# Altium footprint library ESCV3.PcbLib: 2 footprints
Each footprint in its own frame and in the unit in brackets; x right, y up, seen from the top. Pads: shape width x height; smd on the part's side, far side on the other; paste and mask are expansions set on the pad; w line width, h text height; cw(c..) or ccw(c..) is an arc to the next point about the centre after c.
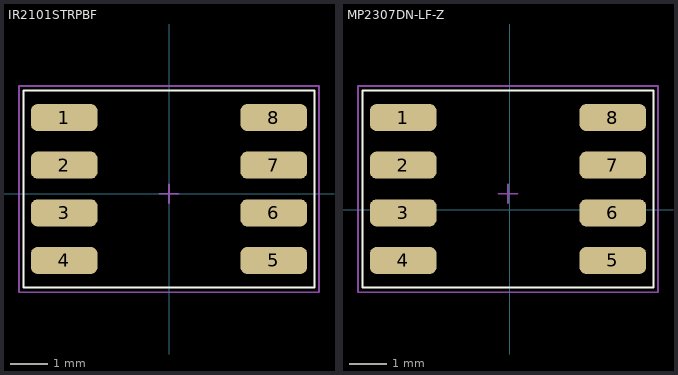
[diagram p0: the footprints below, top view; thin cyan lines are the x and y axes]

## IR2101STRPBF [mil]
pads (8):
  rrect50% 70.08x28.35 smd: 1(-110,80) 2(-110,30) 3(-110,-20) 4(-110,-70) 5(110,-70) 6(110,-20) 7(110,30) 8(110,80)
Top Overlay:
  lines w1.97: -152.56,-98.43 -152.56,98.43 -152.56,108.27 152.56,108.27 152.56,98.43 152.56,-98.43 -152.56,-98.43
Mechanical 1:
  lines w1.97: -9.84,0 9.84,0 ; 0,-9.84 0,9.84 ; -157.48,-103.35 -157.48,113.19 157.48,113.19 157.48,-103.35 -157.48,-103.35
3D body "IR2101STRPBF.STEP": height 68.9, standoff 0, extent -118.11,-93.43 118.11,103.43

## MP2307DN-LF-Z [mm]
pads (8):
  rrect50% 1.78x0.72 smd: 1(-2.844,2.457) 2(-2.844,1.187) 3(-2.844,-0.083) 4(-2.844,-1.353) 5(2.744,-1.353) 6(2.744,-0.083) 7(2.744,1.187) 8(2.744,2.457)
Top Overlay:
  lines w0.05: -3.925,-2.075 -3.925,2.925 -3.925,3.175 3.825,3.175 3.825,2.925 3.825,-2.075 -3.925,-2.075
Mechanical 1:
  lines w0.05: -0.3,0.425 0.2,0.425 ; -0.05,0.175 -0.05,0.675 ; -4.05,-2.2 -4.05,3.3 3.95,3.3 3.95,-2.2 -4.05,-2.2
3D body "MP2307DN-LF-Z (1).STEP": height 1.7, standoff 0, extent -3.047,-1.851 2.947,3.051